# Altium footprint library 22284245.PcbLib: 1 footprints
Each footprint in its own frame and in the unit in brackets; x right, y up, seen from the top. Pads: shape width x height; smd on the part's side, far side on the other; paste and mask are expansions set on the pad; w line width, h text height; cw(c..) or ccw(c..) is an arc to the next point about the centre after c.
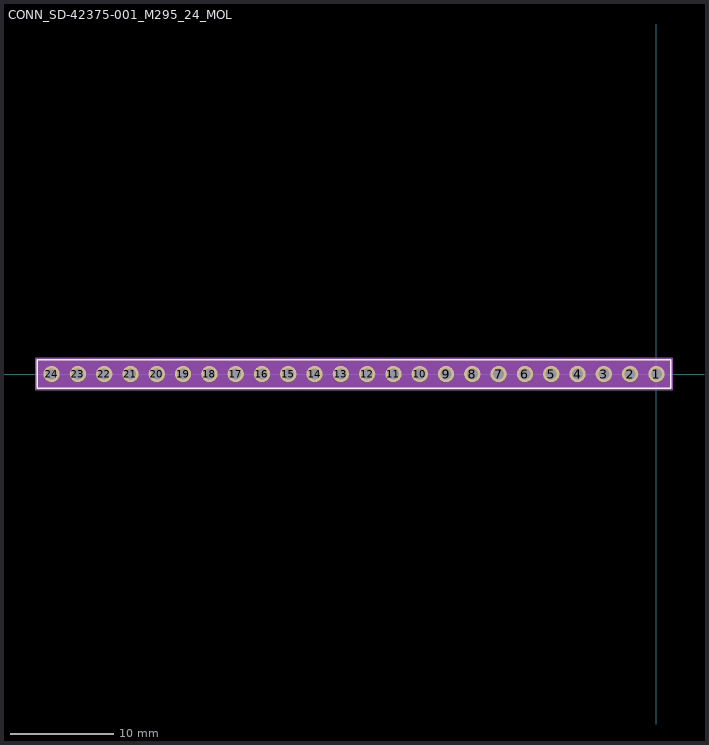
[diagram p0: the footprint, top view; thin cyan lines are the x and y axes]

## CONN_SD-42375-001_M295_24_MOL [mil]
pads (24):
  round 62 / inner round 60 / far side round 62 hole 42 paste-31 mask+0: 1(0,0) 2(-100,0) 3(-200,0) 4(-300,0) 5(-400,0) 6(-500,0) 7(-600,0) 8(-700,0) 9(-800,0) 10(-900,0) 11(-1000,0) 12(-1100,0) 13(-1200,0) 14(-1300,0) 15(-1400,0) 16(-1500,0) 17(-1600,0) 18(-1700,0) 19(-1800,0) 20(-1900,0) 21(-2000,0) 22(-2100,0) 23(-2200,0) 24(-2300,0)
Top Overlay:
  lines w6: -2355,-54 -2355,54 55,54 55,-54 -2355,-54
Mechanical 13:
  lines w1: -2350,-49 -2350,49 50,49 50,-49 -2350,-49
Mechanical 15:
  region: 60,59 -2360,59 -2360,-59 60,-59
  lines w6: -2360,-59 60,-59 60,59 -2360,59 -2360,-59
3D body "022284245.stp": height 385, standoff -120, extent -2350,-49 50,49